# Altium footprint library 2.30-DFN封装.PcbLib: 15 footprints
Each footprint in its own frame and in the unit in brackets; x right, y up, seen from the top. Pads: shape width x height; smd on the part's side, far side on the other; paste and mask are expansions set on the pad; w line width, h text height; cw(c..) or ccw(c..) is an arc to the next point about the centre after c.
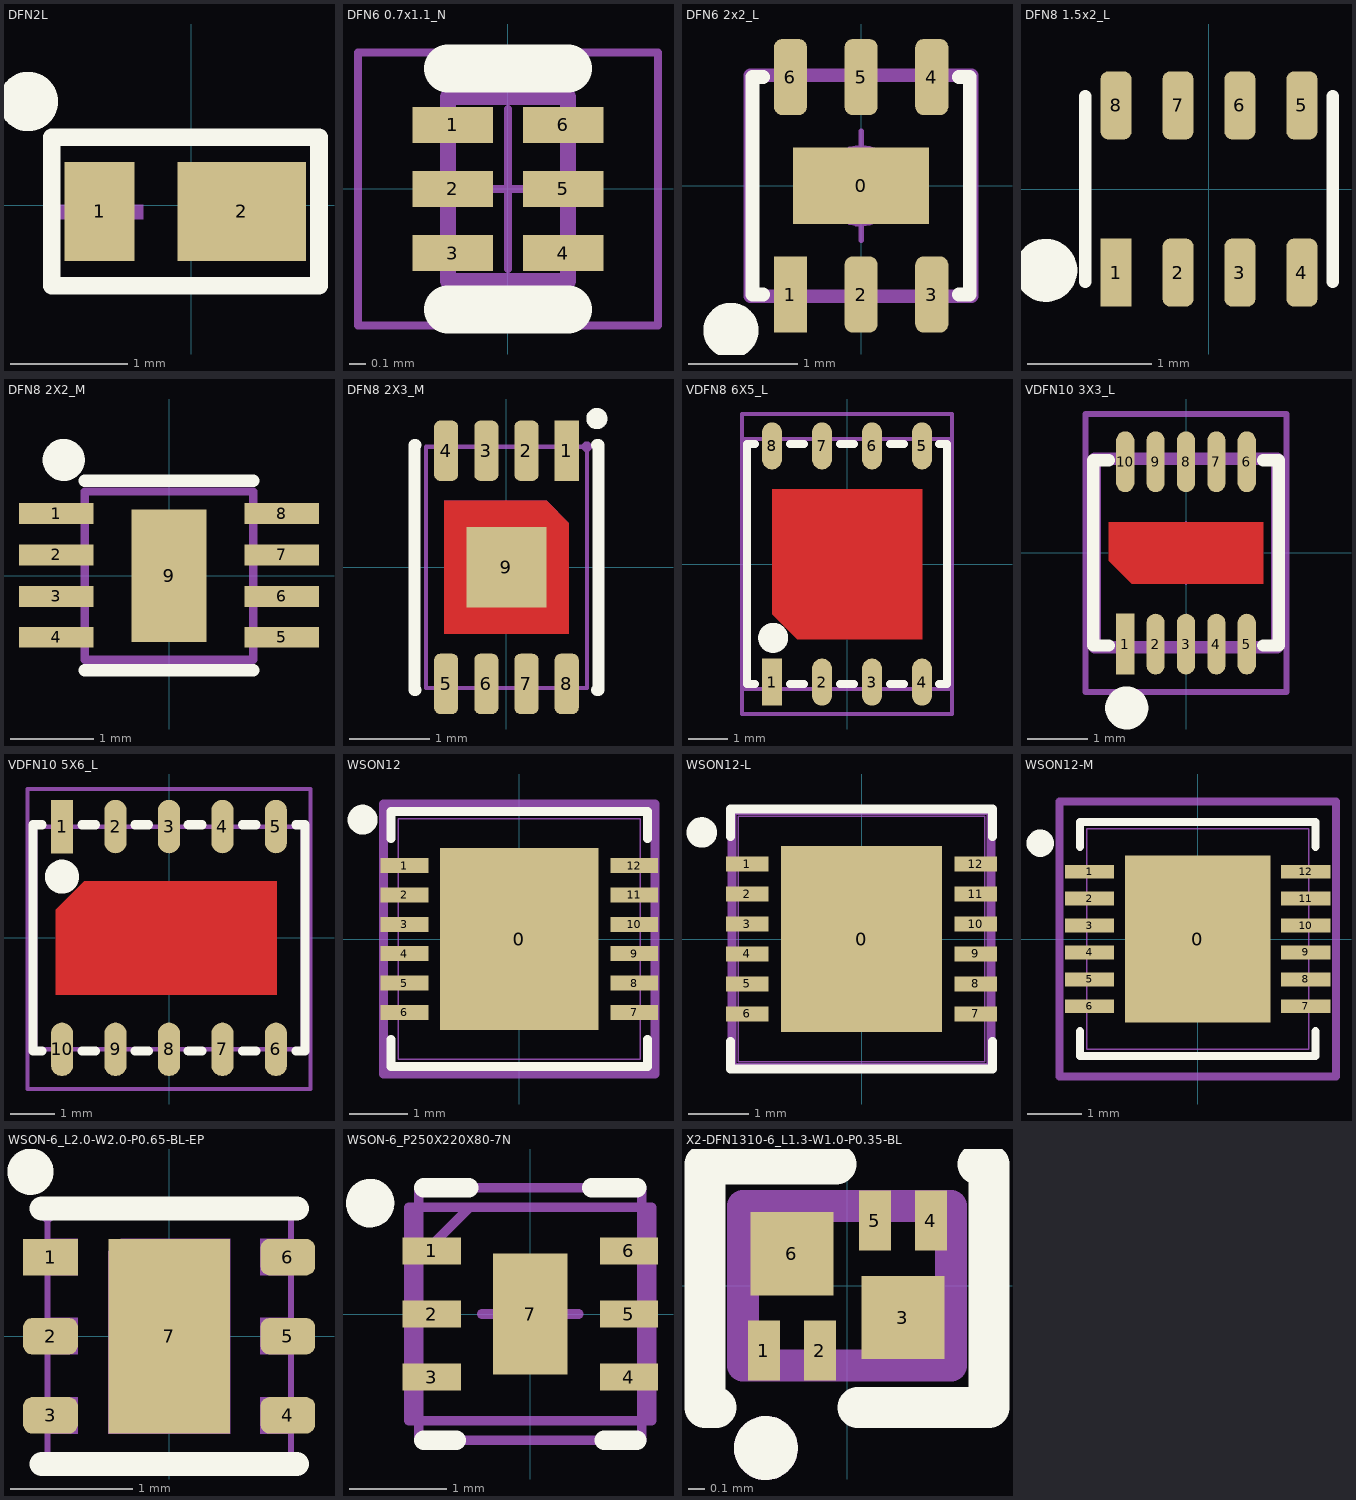
[diagram p0: the footprints below, top view; thin cyan lines are the x and y axes]

## DFN2L [mm] "DFN-2_L1.6-W0.8-H0.5-P0.85"
pads (2):
  rect 0.6x0.85 smd: 1(-0.787,-0.052)
  rect 1.1x0.85 smd: 2(0.429,-0.052)
Top Overlay:
  circle w0.35: c-1.397,0.889 r0.079
  lines w0.15: -1.195,-0.687 -1.195,0.583 1.091,0.583 1.091,-0.687 -1.195,-0.687
Mechanical 15:
  region: -0.719,-0.442 -0.846,-0.442 -0.846,0.32 -0.719,0.32
  region: -1.177,-0.12 -1.177,0.007 -0.415,0.007 -0.415,-0.12
  region: 0.039,-0.12 0.039,0.007 0.801,0.007 0.801,-0.12

## DFN6 0.7x1.1_N [mm] "SON, 6-Leads, Body 1.10x0.70mm, Pitch 0.40mm"
height 0.4
pads (6):
  rect 0.5x0.225 smd: 1(-0.345,0.4) 2(-0.345,0) 3(-0.345,-0.4) 4(0.345,-0.4) 5(0.345,0) 6(0.345,0.4)
Top Overlay:
  lines w0.3: -0.375,-0.75 0.375,-0.75 ; -0.375,0.75 0.375,0.75
  text "." at -1.2,0.9 h4
Mechanical 14:
  lines w0.1: -0.375,-0.575 0.375,-0.575 0.375,0.575 -0.375,0.575 -0.375,-0.575
  text "." at -0.325,0.55 h4
Mechanical 17:
  lines w0.05: -0.5,0 0.5,0 ; 0,-0.5 0,0.5 ; -0.935,-0.85 0.935,-0.85 0.935,0.85 -0.935,0.85 -0.935,-0.85
3D body "SON40P70X40-6N.step": height 0.4, standoff 0, extent -0.376,-0.575 0.376,0.575

## DFN6 2x2_L [mm]
height 0.8
pads (7):
  rect 1.25x0.7 smd: 0(0,0)
  rect 0.305x0.7 smd: 1(-0.65,-1)
  rrect50% 0.305x0.7 smd: 2(0,-1) 3(0.65,-1) 4(0.65,1) 5(0,1) 6(-0.65,1)
Top Overlay:
  circle w0.35: c-1.196,-1.33 r0.079
  lines w0.127: -0.9,-1 -1,-1 -1,1 -0.9,1 ; 0.9,-1 1,-1 1,1 0.9,1
Mechanical 15:
  circle w0.05: c0,0 r0.35
  lines w0.05: -0.5,0 0.5,0 ; 0,-0.5 0,0.5
  lines w0.127: -1.016,-1.016 1.016,-1.016 1.016,1.016 -1.016,1.016 -1.016,-1.016
3D body "3D_PCB1_2022-05-13 (1).step": height 0.81, standoff 0, extent -1,-1.009 0.999,1.009

## DFN8 1.5x2_L [mm]
pads (8):
  rect 0.25x0.55 smd: 1(-0.75,-0.675)
  rrect50% 0.25x0.55 smd: 2(-0.25,-0.675) 3(0.25,-0.675) 4(0.75,-0.675) 5(0.75,0.675) 6(0.25,0.675) 7(-0.25,0.675) 8(-0.75,0.675)
Top Overlay:
  circle w0.35: c-1.317,-0.656 r0.079
  lines w0.1: -1,-0.75 -1,0.75 ; 1,-0.75 1,0.75
3D body "MP2322GQH.STEP": height 0.85, standoff 0, extent -1,-0.75 1,0.75

## DFN8 2X2_M [mm]
pads (9):
  rect 0.9x0.25 smd: 1(-1.36,0.75) 2(-1.36,0.25) 3(-1.36,-0.25) 4(-1.36,-0.744) 5(1.36,-0.744) 6(1.36,-0.25) 7(1.36,0.25) 8(1.36,0.75)
  rect 0.9x1.6 smd: 9(0,0)
Top Overlay:
  circle w0.35: c-1.27,1.397 r0.079
  lines w0.15: -1.016,-1.143 1.016,-1.143 ; -1.016,1.143 1.016,1.143
Mechanical 15:
  lines w0.1: -1.016,-1.016 1.016,-1.016 1.016,1.016 -1.016,1.016 -1.016,-1.016
3D body "User Library-DFN-8_2525.step": height 0.9, standoff -0.01, extent -1.26,-1.25 1.26,1.25

## DFN8 2X3_M [mm]
pads (9):
  rect 0.3x0.75 smd mask+0.051: 1(0.75,1.45)
  rrect50% 0.3x0.75 smd mask+0.051: 2(0.249,1.45) 3(-0.25,1.45) 4(-0.75,1.45) 5(-0.75,-1.45) 6(-0.25,-1.45) 7(0.249,-1.45) 8(0.75,-1.45)
  rect 1x1 smd: 9(0,0)
Top Layer:
  region: -0.775,0.825 -0.775,-0.825 0.775,-0.825 0.775,0.55 0.5,0.825
Top Overlay:
  circle w0.15: c1.125,1.85 r0.057
  lines w0.15: -1.129,-1.524 -1.143,-1.524 -1.143,1.524 -1.129,1.524 ; 1.129,-1.524 1.143,-1.524 1.143,1.524 1.129,1.524
Top Paste:
  region: -0.775,0.825 -0.775,-0.825 0.775,-0.825 0.775,0.55 0.5,0.825
Top Solder:
  region: -0.775,0.825 -0.775,-0.825 0.775,-0.825 0.775,0.55 0.5,0.825
Mechanical 15:
  region: -0.775,0.825 -0.775,-0.825 0.775,-0.825 0.775,0.55 0.5,0.825
  region: 0.94,1.5 0.94,1.475 0.975,1.44 1.025,1.44 1.06,1.475 1.06,1.5 1.06,1.524 1.025,1.56 0.975,1.56 0.94,1.524 0.94,1.5
  region: 0.875,-1.5 0.625,-1.5 0.625,-1.1 0.875,-1.1
  region: 0.374,-1.5 0.124,-1.5 0.124,-1.1 0.374,-1.1
  region: -0.125,-1.5 -0.375,-1.5 -0.375,-1.1 -0.125,-1.1
  region: -0.625,-1.5 -0.875,-1.5 -0.875,-1.1 -0.625,-1.1
  region: -0.625,1.1 -0.875,1.1 -0.875,1.5 -0.625,1.5
  region: -0.125,1.1 -0.375,1.1 -0.375,1.5 -0.125,1.5
  region: 0.374,1.1 0.124,1.1 0.124,1.5 0.374,1.5
  region: 0.875,1.1 0.625,1.1 0.625,1.5 0.875,1.5
  lines w0.051: -1,-1.5 1,-1.5 1,1.5 -1,1.5 -1,-1.5
3D body "DFN8——2_3.step": height 0.75, standoff 0, extent -0.999,-1.508 1.001,1.512

## VDFN8 6X5_L [mm] "6mm*5mm*1.27mm(长*宽*脚距)          淘宝ID:黄晶宝石"
pads (8):
  rect 0.5x1.2 smd: 1(-1.905,-3)
  oval 0.5x1.2 smd: 2(-0.635,-3) 3(0.635,-3) 4(1.905,-3) 5(1.905,3) 6(0.635,3) 7(-0.635,3) 8(-1.905,3)
Top Layer:
  region: 1.905,-1.905 -1.27,-1.905 -1.905,-1.27 -1.905,1.905 1.905,1.905
Top Overlay:
  circle w0.508: c-1.875,-1.875 r0.127
  lines w0.203: -2.337,-3.048 -2.54,-3.048 -2.54,3.048 -2.337,3.048 ; -1.448,-3.048 -1.092,-3.048 ; -1.448,3.048 -1.092,3.048 ; -0.178,-3.048 0.178,-3.048 ; -0.178,3.048 0.178,3.048 ; 1.092,-3.048 1.448,-3.048 ; 1.092,3.048 1.448,3.048 ; 2.337,-3.048 2.54,-3.048 2.54,3.048 2.337,3.048
Top Paste:
  region: 1.905,-1.905 -1.27,-1.905 -1.905,-1.27 -1.905,1.905 1.905,1.905
Top Solder:
  region: 1.905,-1.905 -1.27,-1.905 -1.905,-1.27 -1.905,1.905 1.905,1.905
Mechanical 13:
  lines w0.1: -2.667,-3.175 -2.667,3.175 2.667,3.175 2.667,1.905 2.667,-3.175 -2.667,-3.175
Mechanical 15:
  circle w0.05: c0,0 r0.35
  lines w0.05: -0.5,0 0.5,0 ; 0,-0.5 0,0.5
  lines w0.1: -2.667,-3.81 -2.667,3.81 2.667,3.81 2.667,-3.81 -2.667,-3.81
3D body "VDFN6x5-8L.STEP": height 1.06, standoff 0.03, extent -2.5,-3.05 2.5,3.05

## VDFN10 3X3_L [mm] "3mm*3mm*0.5mm(长*宽*脚距）         淘宝ID:黄晶宝石"
pads (10):
  rect 0.3x1 smd: 1(-1,-1.5)
  oval 0.3x1 smd: 2(-0.5,-1.5) 3(0,-1.5) 4(0.5,-1.5) 5(1,-1.5) 6(1,1.5) 7(0.5,1.5) 8(0,1.5) 9(-0.5,1.5) 10(-1,1.5)
Top Layer:
  region: -1.27,0.508 1.27,0.508 1.27,-0.508 -0.889,-0.508 -1.27,-0.127
Top Overlay:
  circle w0.508: c-0.975,-2.55 r0.1
  lines w0.203: -1.27,-1.524 -1.524,-1.524 -1.524,1.524 -1.27,1.524 ; 1.27,-1.524 1.524,-1.524 1.524,1.524 1.27,1.524
Top Paste:
  region: -1.27,0.508 1.27,0.508 1.27,-0.508 -0.889,-0.508 -1.27,-0.127
Top Solder:
  region: -1.27,0.508 1.27,0.508 1.27,-0.508 -0.889,-0.508 -1.27,-0.127
Mechanical 13:
  lines w0.203: 1.5,-1.55 1.5,1.55 ; -1.5,-1.55 -1.5,1.55 1.5,1.55 1.5,-1.55 -1.5,-1.55
Mechanical 15:
  circle w0.05: c0,0 r0.35
  lines w0.05: -0.5,0 0.5,0 ; 0,-0.5 0,0.5
  lines w0.1: -1.651,-2.286 -1.651,2.286 1.651,2.286 1.651,-2.286 -1.651,-2.286
3D body "VDFN3x3-10L.STEP": height 1.06, standoff 0.03, extent -1.5,-1.55 1.5,1.55

## VDFN10 5X6_L [mm] "5mm*6mm*1.2mm(长*宽*脚距）        淘宝ID:黄晶宝石"
pads (10):
  rect 0.5x1.2 smd: 1(-2.4,2.5)
  oval 0.5x1.2 smd: 2(-1.2,2.5) 3(0,2.5) 4(1.2,2.5) 5(2.4,2.5) 6(2.4,-2.5) 7(1.2,-2.5) 8(0,-2.5) 9(-1.2,-2.5) 10(-2.4,-2.5)
Top Layer:
  region: 2.413,1.27 -1.905,1.27 -2.54,0.635 -2.54,-1.27 2.413,-1.27
Top Overlay:
  circle w0.508: c-2.4,1.375 r0.127
  lines w0.203: -2.845,-2.54 -3.048,-2.54 -3.048,2.54 -2.845,2.54 ; -1.956,-2.54 -1.651,-2.54 ; -1.956,2.54 -1.651,2.54 ; -0.762,-2.54 -0.457,-2.54 ; -0.762,2.54 -0.457,2.54 ; 0.432,-2.54 0.737,-2.54 ; 0.432,2.54 0.737,2.54 ; 1.651,-2.54 1.956,-2.54 ; 1.651,2.54 1.956,2.54 ; 2.845,-2.54 3.048,-2.54 3.048,2.54 2.845,2.54
Top Paste:
  region: 2.413,1.27 -1.905,1.27 -2.54,0.635 -2.54,-1.27 2.413,-1.27
Top Solder:
  region: 2.413,1.27 -1.905,1.27 -2.54,0.635 -2.54,-1.27 2.413,-1.27
Mechanical 13:
  lines w0.1: -3,-2.5 3,-2.5 3,2.5 -3,2.5 -3,-2.5
Mechanical 15:
  circle w0.05: c0,0 r0.35
  lines w0.05: -0.5,0 0.5,0 ; 0,-0.5 0,0.5
  lines w0.1: -3.175,-3.389 3.175,-3.389 3.175,3.342 -3.175,3.342 -3.175,-3.389
3D body "VDFN5x6-10.STEP": height 1.06, standoff 0.03, extent -3,-2.55 3,2.55

## WSON12 [mil]
pads (13):
  rect 106x122 smd paste+0 mask+0: 0(0,0)
  rect 32x10 smd paste+0 mask+0: 1(-77,49.21) 2(-77,29.53) 3(-77,9.84) 4(-77,-9.84) 5(-77,-29.53) 6(-77,-49.21) 7(77,-49.21) 8(77,-29.53) 9(77,-9.84) 10(77,9.84) 11(77,29.53) 12(77,49.21)
Top Overlay:
  circle w13.78: c-105,80 r3.11
  lines w6: -86,-67.31 -86,-85.5 86,-85.5 86,-67.31 ; -86,67.31 -86,85.5 86,85.5 86,67.31
Top Paste:
  region: 49.06,-3.94 3.94,-3.94 3.94,-57.06 49.06,-57.06
  region: 49.06,57.06 3.94,57.06 3.94,3.94 49.06,3.94
  region: -3.94,-3.94 -49.06,-3.94 -49.06,-57.06 -3.94,-57.06
  region: -3.94,57.06 -49.06,57.06 -49.06,3.94 -3.94,3.94
Mechanical 13:
  lines w1: -81,-80.5 -81,80.5 81,80.5 81,-80.5 -81,-80.5
Mechanical 15:
  lines w6: -91,-90.5 91,-90.5 91,-64.21 91,64.21 91,90.5 -91,90.5 -91,64.21 -91,-64.21 -91,-90.5
3D body "DNT12_TEX.step": height 39.09, standoff 0, extent -80.98,-80.51 80.98,80.51

## WSON12-L [mil]
pads (13):
  rect 106x122 smd paste+0 mask+0: 0(0,0)
  rect 28x10 smd paste+0 mask+0: 1(-75,49.21) 2(-75,29.53) 3(-75,9.84) 4(-75,-9.84) 5(-75,-29.53) 6(-75,-49.21) 7(75,-49.21) 8(75,-29.53) 9(75,-9.84) 10(75,9.84) 11(75,29.53) 12(75,49.21)
Top Overlay:
  circle w13.78: c-105,70 r3.11
  lines w6: -86,-67.31 -86,-85.5 86,-85.5 86,-67.31 ; -86,67.31 -86,85.5 86,85.5 86,67.31
Top Paste:
  region: -3.94,57.06 -49.06,57.06 -49.06,3.94 -3.94,3.94
  region: -3.94,-3.94 -49.06,-3.94 -49.06,-57.06 -3.94,-57.06
  region: 49.06,57.06 3.94,57.06 3.94,3.94 49.06,3.94
  region: 49.06,-3.94 3.94,-3.94 3.94,-57.06 49.06,-57.06
Mechanical 13:
  lines w1: -81,-80.5 81,-80.5 81,80.5 -81,80.5 -81,-80.5
Mechanical 15:
  lines w6: -85,-84.5 -85,-58.21 -85,58.21 -85,84.5 85,84.5 85,58.21 85,-58.21 85,-84.5 -85,-84.5
3D body "DNT12_TEX.step": height 39.09, standoff 0, extent -80.98,-80.51 80.98,80.51

## WSON12-M [mil]
pads (13):
  rect 106x122 smd paste+0 mask+0: 0(0,0)
  rect 36x10 smd paste+0 mask+0: 1(-79,49.21) 2(-79,29.53) 3(-79,9.84) 4(-79,-9.84) 5(-79,-29.53) 6(-79,-49.21) 7(79,-49.21) 8(79,-29.53) 9(79,-9.84) 10(79,9.84) 11(79,29.53) 12(79,49.21)
Top Overlay:
  circle w13.78: c-115,70 r3.11
  lines w6: -86,-67.31 -86,-85.5 86,-85.5 86,-67.31 ; -86,67.31 -86,85.5 86,85.5 86,67.31
Top Paste:
  region: 49.06,-3.94 3.94,-3.94 3.94,-57.06 49.06,-57.06
  region: 49.06,57.06 3.94,57.06 3.94,3.94 49.06,3.94
  region: -3.94,-3.94 -49.06,-3.94 -49.06,-57.06 -3.94,-57.06
  region: -3.94,57.06 -49.06,57.06 -49.06,3.94 -3.94,3.94
Mechanical 13:
  lines w1: -81,-80.5 -81,80.5 81,80.5 81,-80.5 -81,-80.5
Mechanical 15:
  lines w6: -101,-100.5 101,-100.5 101,-74.21 101,74.21 101,100.5 -101,100.5 -101,74.21 -101,-74.21 -101,-100.5
3D body "DNT12_TEX.step": height 39.09, standoff 0, extent -80.98,-80.51 80.98,80.51

## WSON-6_L2.0-W2.0-P0.65-BL-EP [mm]
pads (7):
  rect 0.45x0.3 smd paste+0 mask+0.051: 1(-0.975,0.65)
  rrect50% 0.45x0.3 smd paste+0 mask+0.051: 2(-0.975,0) 3(-0.975,-0.65) 4(0.975,-0.65) 5(0.975,0) 6(0.975,0.65)
  rect 1x1.6 smd paste+0 mask+0.051: 7(0,0)
Top Overlay:
  circle w0.254: c-1.14,1.352 r0.064
  lines w0.201: -1.049,-1.05 1.05,-1.05 ; -1.049,1.05 1.05,1.05
Mechanical 15:
  region: -1.06,1 -1.06,0.975 -1.025,0.94 -0.975,0.94 -0.94,0.975 -0.94,1 -0.94,1.025 -0.975,1.06 -1.025,1.06 -1.06,1.025 -1.06,1
  region: -0.4,0.8 0.5,0.8 0.5,-0.8 -0.5,-0.8 -0.5,0.7
  region: 1,0.8 0.75,0.8 0.75,0.5 1,0.5
  region: 1,0.15 0.75,0.15 0.75,-0.15 1,-0.15
  region: 1,-0.5 0.75,-0.5 0.75,-0.8 1,-0.8
  region: -1,-0.5 -0.75,-0.5 -0.75,-0.8 -1,-0.8
  region: -1,0.15 -0.75,0.15 -0.75,-0.15 -1,-0.15
  region: -1,0.8 -0.75,0.8 -0.75,0.5 -1,0.5
  lines w0.051: -1,-1 1,-1 1,1 -1,1 -1,-1
3D body "3D_PCB1_2023-05-172222.step": height 0.89, standoff 0.08, extent -1.01,-1.016 1.01,0.984

## WSON-6_P250X220X80-7N [mm]
pads (7):
  rect 0.6x0.28 smd: 1(-1.016,0.65) 2(-1.016,0) 3(-1.016,-0.65) 4(1.016,-0.65) 5(1.016,0) 6(1.016,0.65)
  rect 0.77x1.25 smd: 7(0,0)
Top Overlay:
  circle w0.25: c-1.651,1.143 r0.125
  lines w0.2: -1.1,-1.3 -0.762,-1.3 ; -1.1,1.3 -0.635,1.3 ; 0.635,1.3 1.1,1.3 ; 0.762,-1.3 1.1,-1.3
Mechanical 13:
  lines w0.1: -1.15,-1.3 1.15,-1.3 1.15,1.3 -1.15,1.3 -1.15,-1.3
Mechanical 15:
  lines w0.1: -1.25,0.475 -0.625,1.1 ; -0.5,0 0.5,0 ; 0,-0.5 0,0.5 ; -1.25,-1.1 1.25,-1.1 1.25,1.1 -1.25,1.1 -1.25,-1.1
3D body "LP5900SD-2.step": height 0.81, standoff 0, extent -1.25,-1.1 1.25,1.1

## X2-DFN1310-6_L1.3-W1.0-P0.35-BL [mm]
pads (6):
  rect 0.2x0.375 smd: 1(-0.52,-0.407) 2(-0.17,-0.407) 4(0.525,0.407) 5(0.175,0.407)
  rect 0.52x0.52 smd: 3(0.35,-0.2) 6(-0.345,0.2)
Top Overlay:
  circle w0.2: c-0.508,-1.016 r0.1
  lines w0.254: -0.818,-0.762 -0.889,-0.762 -0.889,0.762 -0.069,0.762 ; 0.068,-0.762 0.889,-0.762 0.889,0.762 0.819,0.762
Mechanical 6:
  circle w0.2: c-0.508,-1.016 r0.1
Mechanical 15:
  region: -0.615,-0.25 -0.465,-0.25 -0.465,-0.5 -0.615,-0.5
  region: -0.265,-0.25 -0.115,-0.25 -0.115,-0.5 -0.265,-0.5
  region: 0.465,0.5 0.615,0.5 0.615,0.25 0.465,0.25
  region: 0.115,0.5 0.265,0.5 0.265,0.25 0.115,0.25
  region: 0.15,0 0.55,0 0.55,-0.4 0.15,-0.4
  region: -0.55,0.4 -0.15,0.4 -0.15,0 -0.55,0
  region: -0.59,-0.5 -0.59,-0.475 -0.625,-0.44 -0.675,-0.44 -0.71,-0.475 -0.71,-0.5 -0.71,-0.525 -0.675,-0.56 -0.625,-0.56 -0.59,-0.525 -0.59,-0.5
  lines w0.051: -0.65,-0.5 0.65,-0.5 0.65,0.5 -0.65,0.5 -0.65,-0.5
  lines w0.2: -0.65,-0.5 0.65,-0.5 0.65,0.5 -0.65,0.5 -0.65,-0.5
3D body "3D_PCB1_2023-11-21.step": height 0.32, standoff 0.01, extent -0.66,-0.51 0.66,0.51